# Altium schematic symbol library components.SchLib: 10 symbols
Pins are listed as number, name and electrical type; pins without a type are passive.

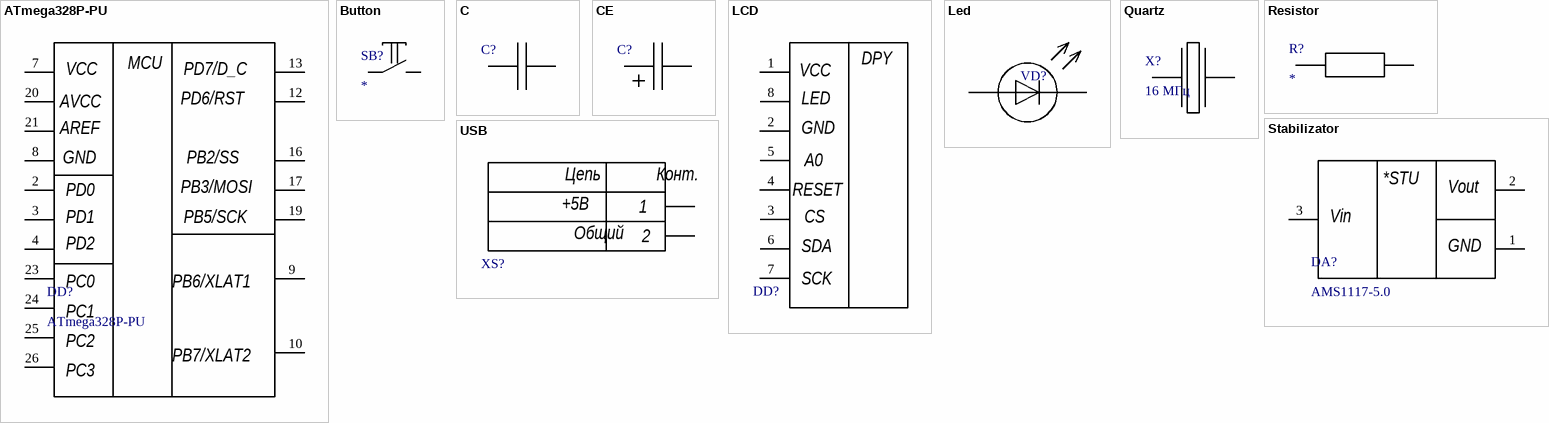
[diagram p0: symbols ATmega328P-PU to USB]

## ATmega328P-PU
designator DD?
footprint ATMEGA328P-PU
pins: 2, 3, 4, 7, 8, 9, 10, 12, 13, 16, 17, 19, 20, 21, 23, 24, 25, 26
text: MCU; VCC; PD7/D_C; AVCC; PD6/RST; AREF; GND; PB2/SS; PB3/MOSI; PD0; PD1; PB5/SCK; PD2; PC0; PB6/XLAT1; PC1; PC2; PB7/XLAT2; PC3

## Button
designator SB?
footprint Button
pins: 1, 2

## C
designator C?  (value not drawn)
footprint СC
pins: 1, 2

## CE
designator C?  (value not drawn)
footprint CE (50v 1uF)
pins: 1, 2

## LCD
designator DD?  (value not drawn)
footprint LCD
pins: 1, 2, 3, 4, 5, 6, 7, 8
text: DPY; VCC; LED; GND; A0; RESET; CS; SDA; SCK

## Led
designator VD?  (value not drawn)
RED
footprint LED
pins: 1, 2

## Quartz
designator X?, comment 16 МГц
footprint Quartz
pins: 1, 2

## Resistor
designator R?
footprint R
pins: 1, 2

## Stabilizator
designator DA?, comment AMS1117-5.0
footprint SOT223
pins: 1, 2, 3
text: *STU; Vout; Vin; GND

## USB
designator XS?
footprint TypeC
pins: GND, VCC
text: Цепь; Конт.; +5В; 1; Общий; 2